# EAGLE library part LS7366R (library HuskyRobotics17-18)
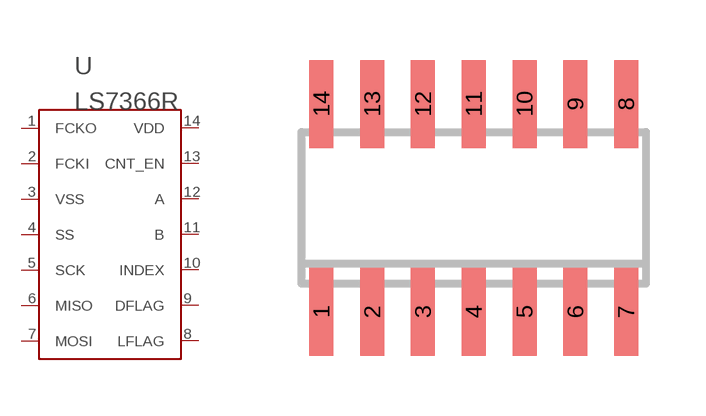
[diagram p9: symbol with the pads of SO14; footprint SO14]

Designator prefix -

## LS7366R  [SO14]
1  FCKO
2  FCKI
3  VSS
4  SS
5  SCK
6  MISO
7  MOSI
8  LFLAG
9  DFLAG
10  INDEX
11  B
12  A
13  CNT_EN
14  VDD

## Footprint SO14 (pad centres in mm)
SMALL OUTLINE INTEGRATED CIRCUIT body 3.9 mm/JEDEC MS-012AC
smd 0.6 x 2.2: 1 -3.81,-2.6; 2 -2.54,-2.6; 3 -1.27,-2.6; 4 0,-2.6; 5 1.27,-2.6; 6 2.54,-2.6; 7 3.81,-2.6; 8 3.81,2.6; 9 2.54,2.6; 10 1.27,2.6; 11 0,2.6; 12 -1.27,2.6; 13 -2.54,2.6; 14 -3.81,2.6